# Altium schematic symbol library 3557-2.SchLib: 1 symbol
Pins are listed as number, name and electrical type; pins without a type are passive.

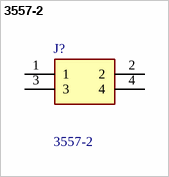
[diagram p0: symbol 3557-2]

## 3557-2
designator J?
THM 2 in 1 Auto Blade Holder P/N 3557-2; Manufacturer_Name: Keystone Electronics; Mouser Part Number: 534-3557-2; Mouser Price/Stock: https://www.mouser.co.uk/ProductDetail/Keystone-Electronics/3557-2?qs=cxy41lVAGV%2FfbyASjpXK1g%3D%3D; Manufacturer_Part_Number: 3557-2; Datasheet Link: http://www.keyelco.com/product-pdf.cfm?p=296
footprint 3557-2
pins: 1, 2, 3, 4